# EAGLE library part JST-12 (library con-jst-gh)
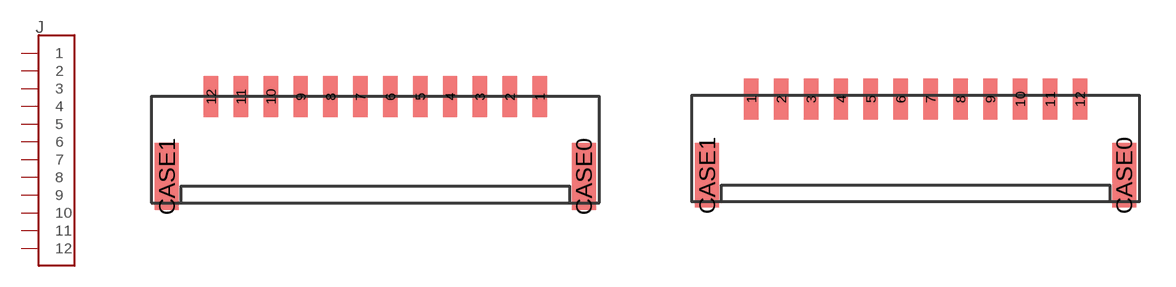
[diagram p2: symbol with the pads of BM12B-GHS; footprints BM12B-GHS, SM12B-GHS]

Designator prefix J

## JST-12TOP  [BM12B-GHS]
1  12
2  11
3  10
4  9
5  8
6  7
7  6
8  5
9  4
10  3
11  2
12  1

## JST-12SIDE  [SM12B-GHS]
1  1
2  2
3  3
4  4
5  5
6  6
7  7
8  8
9  9
10  10
11  11
12  12

## Footprint BM12B-GHS (pad centres in mm)
smd 0.6 x 1.7: 1 6.875,2.5; 2 5.625,2.5; 3 4.375,2.5; 4 3.125,2.5; 5 1.875,2.5; 6 0.625,2.5; 7 -0.625,2.5; 8 -1.875,2.5; 9 -3.125,2.5; 10 -4.375,2.5; 11 -5.625,2.5; 12 -6.875,2.5
smd 1 x 2.8: CASE0 8.725,-0.85; CASE1 -8.725,-0.85

## Footprint SM12B-GHS (pad centres in mm)
smd 0.6 x 1.7: 1 -6.875,2.05; 2 -5.625,2.05; 3 -4.375,2.05; 4 -3.125,2.05; 5 -1.875,2.05; 6 -0.625,2.05; 7 0.625,2.05; 8 1.875,2.05; 9 3.125,2.05; 10 4.375,2.05; 11 5.625,2.05; 12 6.875,2.05
smd 1 x 2.7: CASE0 8.725,-1.15; CASE1 -8.725,-1.15